# Altium schematic symbol library XSS_PowerIC.SchLib: 73 symbols
Pins are listed as number, name and electrical type; pins without a type are passive.

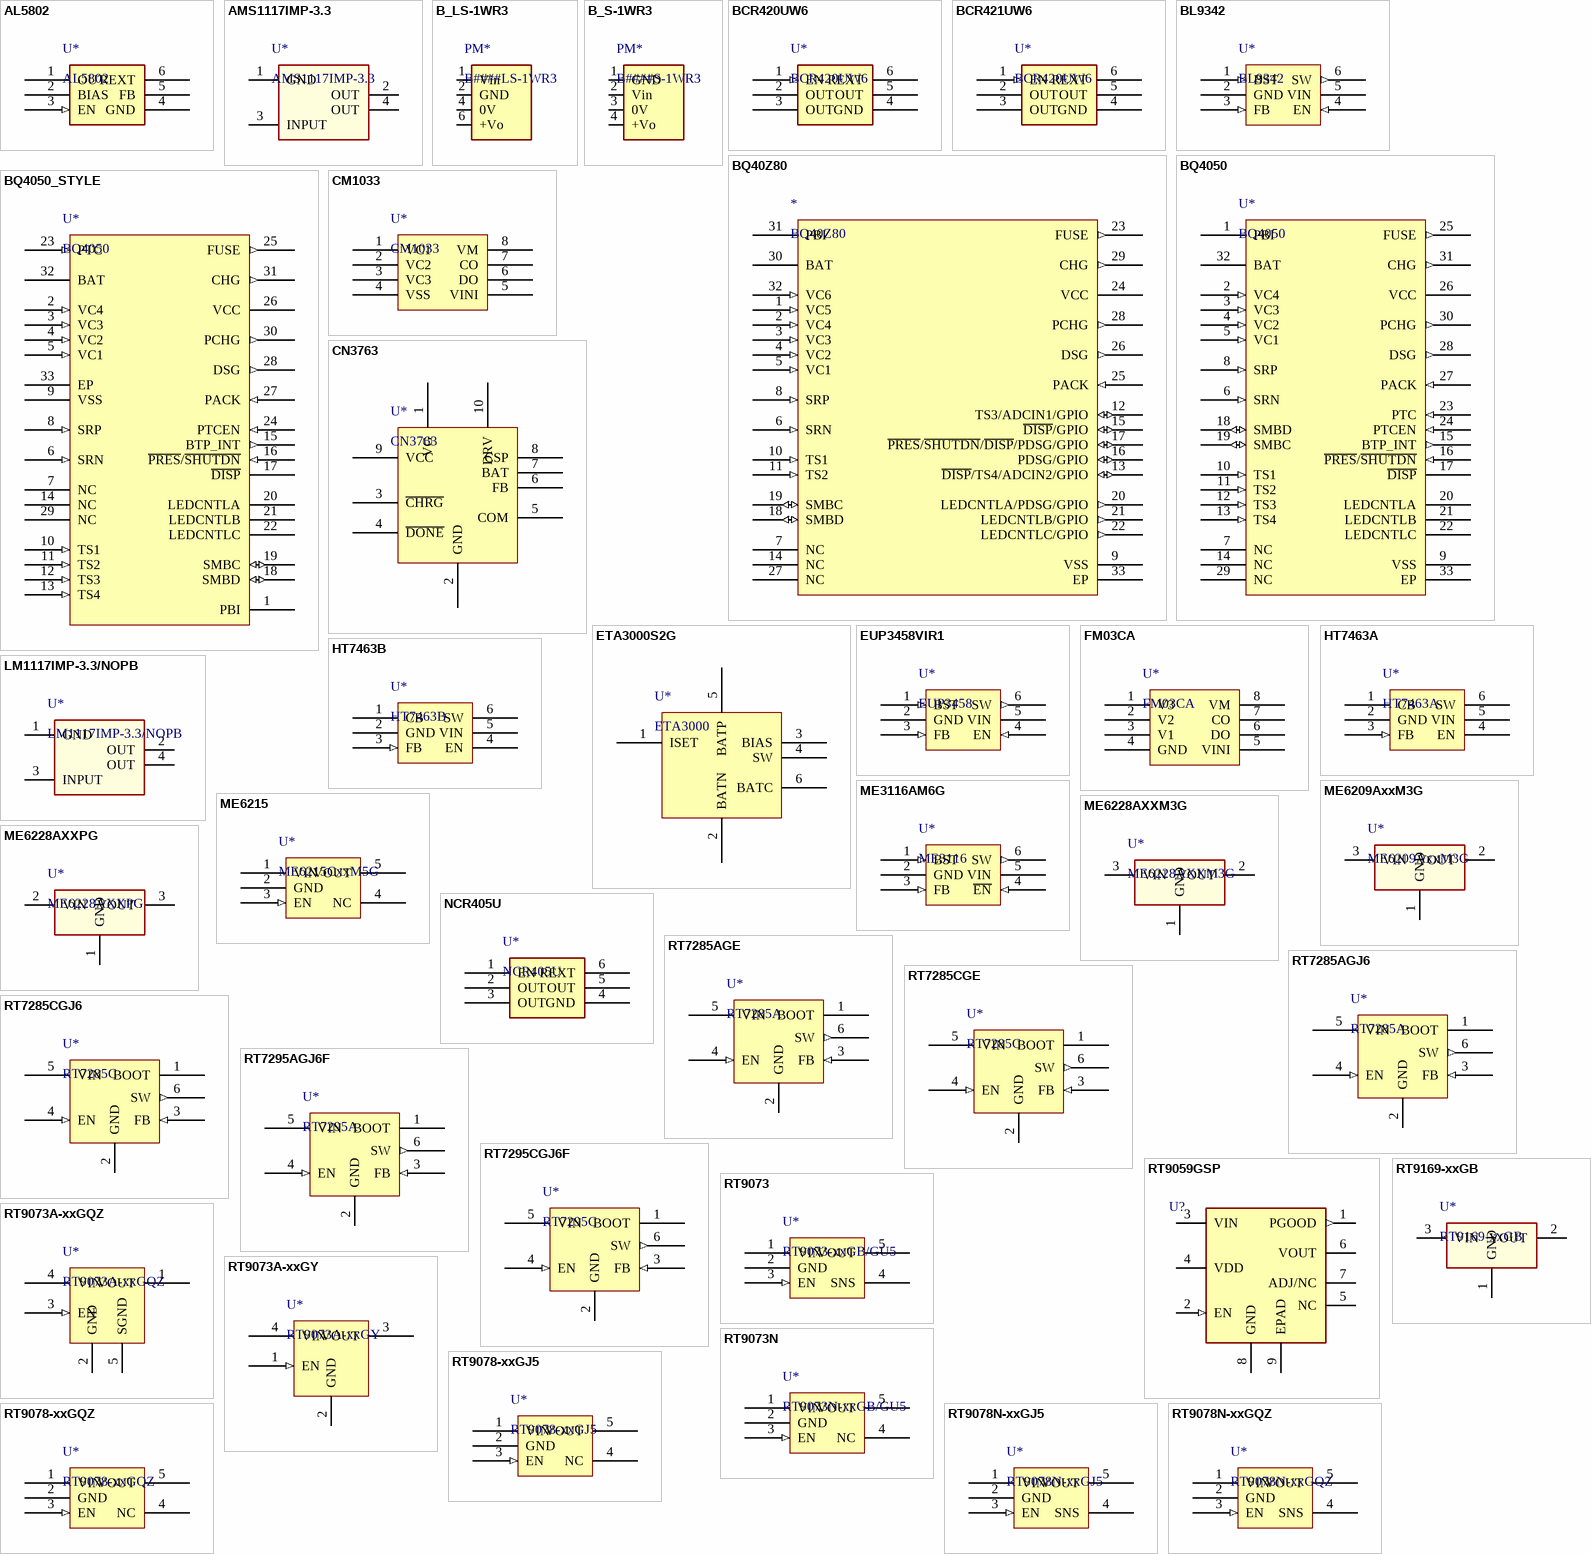
[diagram p0: symbols AL5802 to RT9169-xxGB]

## AL5802
designator U*
Diodes, LINEAR MODE CURRENT SINK LED DRIVER, 20~120mA, 0.8V~30V
footprint SOT-26
pins: 1 OUT (oc), 2 BIAS, 3 EN (in), 4 GND (power), 5 FB, 6 REXT

## AMS1117IMP-3.3
designator U*
AMS1117IMP-3.3, SOT-223, TI, 1000-mA 18-V linear voltage regulator
footprint SOT-223 (SOT-223 package)
pins: 1 GND (power), 2 OUT (power), 3 INPUT (power), 4 OUT (power)

## B_LS-1WR3
designator PM*, comment B####LS-1WR3
mornsun B_LS-1WR3 series DC-DC solation power. 1W output.
footprint B_LS-1WR3
pins: 1 Vin, 2 GND, 4 0V, 6 +Vo

## B_S-1WR3
designator PM*, comment B####S-1WR3
mornsun B_S-1WR3 series DC-DC solation power. 1W output.
footprint B_S-1WR3
pins: 1 GND, 2 Vin, 3 0V, 4 +Vo

## BCR420UW6
designator U*
Diodes, LINEAR LED CONSTANT CURRENT REGULATOR IN SOT26, 350mA, 40V
footprint SOT-26
pins: 1 EN (in), 2 OUT (oc), 3 OUT (oc), 4 GND (power), 5 OUT (oc), 6 REXT (oe)

## BCR421UW6
designator U*, comment BCR420UW6
Diodes, LINEAR LED CONSTANT CURRENT REGULATOR IN SOT26, 350mA, 18V
footprint SOT-26
pins: 1 EN (in), 2 OUT (oc), 3 OUT (oc), 4 GND (power), 5 OUT (oc), 6 REXT (oe)

## BL9342
designator U*
上海贝岭，BL9342，40V, 600mA 降压型稳压电路，1.8MHz, 效率最高90%
footprint SOT-23-6
pins: 1 BST (in), 2 GND (power), 3 FB (in), 4 EN (in), 5 VIN (power), 6 SW (out)

## BQ40Z80
designator *
TI, BQ40Z80(BQ40Z80RSMR/BQ40Z80RSMT), 2-s to 6-s battery pack manager with Impedance Track™ gas gauging, VQFN32(4mmx4mm) = RSM0032A
footprint RSM0032A (TI RSM0032A package, 4mmx4mm, VQFN32+1)
pins: 1 VC5 (in), 2 VC4 (in), 3 VC3 (in), 4 VC2 (in), 5 VC1 (in), 6 SRN (in), 7 NC, 8 SRP (in), 9 VSS (power), 10 TS1 (in), 11 TS2 (in), 12 TS3/ADCIN1/GPIO (io), 13 ~{DISP}/TS4/ADCIN2/GPIO (io), 14 NC, 15 ~{DISP}/GPIO (io), 16 PDSG/GPIO (io), 17 ~{PRES}/~{SHUTDN}/~{DISP}/PDSG/GPIO (io), 18 SMBD (io), 19 SMBC (io), 20 LEDCNTLA/PDSG/GPIO (out), 21 LEDCNTLB/GPIO (out), 22 LEDCNTLC/GPIO (out), 23 FUSE (out), 24 VCC (power), 25 PACK (in), 26 DSG (out), 27 NC, 28 PCHG (out), 29 CHG (out), 30 BAT (power), 31 PBI (power), 32 VC6 (in), 33 EP

## BQ4050
designator U*
TI, BQ4050(BQ4050RSMR/BQ4050RSMT), 1-4 series CEDV battery fuel (gas) gauge, VQFN32(4mmx4mm) = RSM0032A
footprint RSM0032A (TI RSM0032A package, 4mmx4mm, VQFN32+1)
pins: 1 PBI (power), 2 VC4 (in), 3 VC3 (in), 4 VC2 (in), 5 VC1 (in), 6 SRN (in), 7 NC, 8 SRP (in), 9 VSS (power), 10 TS1 (in), 11 TS2 (in), 12 TS3 (in), 13 TS4 (in), 14 NC, 15 BTP_INT (out), 16 ~{PRES}/~{SHUTDN} (in), 17 ~{DISP}, 18 SMBD (io), 19 SMBC (io), 20 LEDCNTLA, 21 LEDCNTLB, 22 LEDCNTLC, 23 PTC (in), 24 PTCEN (in), 25 FUSE (out), 26 VCC, 27 PACK (in), 28 DSG (out), 29 NC, 30 PCHG (out), 31 CHG (out), 32 BAT (power), 33 EP

## BQ4050_STYLE
designator U*, comment BQ4050
TI, BQ4050(BQ4050RSMR/BQ4050RSMT), 1-4 series CEDV battery fuel (gas) gauge, VQFN32(4mmx4mm) = RSM0032A
footprint RSM0032A (TI RSM0032A package, 4mmx4mm, VQFN32+1)
pins: 1 PBI (power), 2 VC4 (in), 3 VC3 (in), 4 VC2 (in), 5 VC1 (in), 6 SRN (in), 7 NC, 8 SRP (in), 9 VSS (power), 10 TS1 (in), 11 TS2 (in), 12 TS3 (in), 13 TS4 (in), 14 NC, 15 BTP_INT (out), 16 ~{PRES}/~{SHUTDN} (in), 17 ~{DISP}, 18 SMBD (io), 19 SMBC (io), 20 LEDCNTLA, 21 LEDCNTLB, 22 LEDCNTLC, 23 PTC (in), 24 PTCEN (in), 25 FUSE (out), 26 VCC, 27 PACK (in), 28 DSG (out), 29 NC, 30 PCHG (out), 31 CHG (out), 32 BAT (power), 33 EP

## CM1033
designator U*
创芯微ICM, 3 串可充电锂电池保护 IC, SOP-8 package
footprint SOP-8 (Standard SOP-8 PAckage, shell:3.9mm width)
pins: 1 VC1, 2 VC2, 3 VC3, 4 VSS, 5 VINI, 6 DO, 7 CO, 8 VM

## CN3763
designator U*
CN3763, 如韵Consonace, 4A 三节锂电池充电管理集成电路, SSOP-10, Input voltage: 6.6V~30V, 4A
footprint SSOP-10 (SSOP package, 10Pins, 6mmx5mmx1.5mm)
pins: 1 VG, 2 GND, 3 ~{CHRG}, 4 ~{DONE}, 5 COM, 6 FB, 7 BAT, 8 CSP, 9 VCC, 10 DRV

## ETA3000S2G
designator U*, comment ETA3000
ETA3000, ETASOLUTION, Inductive Cell balencer IC With Balancing Current up to 2A. SOT-6L packge
footprint SOT23-6L
pins: 1 ISET, 2 BATN, 3 BIAS, 4 SW, 5 BATP, 6 BATC

## EUP3458VIR1
designator U*, comment EUP3458
EUTECH， EUP345830V, 1.2A synchronous Buck Converter，1.2MHz, 效率最高92%
footprint SOT-23-6
pins: 1 BST (in), 2 GND (power), 3 FB (in), 4 EN (in), 5 VIN (power), 6 SW (out)

## FM03CA
designator U*
富满电子, FM03CA, 3 节串联用锂电池保护 IC, SOP-8, 可替代CM1033
footprint SOP-8 (Standard SOP-8 PAckage, shell:3.9mm width)
pins: 1 V3, 2 V2, 3 V1, 4 GND, 5 VINI, 6 DO, 7 CO, 8 VM

## HT7463A
designator U*
HT7463A, Holtek,SOT23-6, 52V/600mA, 1.25MHz Asynchronous Step Down Converter, VIN/4.5~52V,600mA peak current,Up to 90% Efficiency
footprint SOT-23-6
pins: 1 CB (power), 2 GND (power), 3 FB (in), 4 EN, 5 VIN (power), 6 SW (power)

## HT7463B
designator U*
HT7463A, Holtek,SOT23-6, 52V/600mA, 550kHz Asynchronous Step Down Converter, VIN/4.5~52V,600mA peak current,Up to 90% Efficiency
footprint SOT-23-6
pins: 1 CB (power), 2 GND (power), 3 FB (in), 4 EN, 5 VIN (power), 6 SW (power)

## LM1117IMP-3.3/NOPB
designator U*
LM1117IMP-3.3/NOPB, SOT-223, TI, 800-mA 15-V linear voltage regulator
footprint DCY0004A (SOT-223 package)
pins: 1 GND (power), 2 OUT (power), 3 INPUT (power), 4 OUT (power)

## ME3116AM6G
designator U*, comment ME3116
南京微盟，ME3116AM6G，SOT-23-6，40V, 1A 降压型稳压电路，550kHZ，效率最高90%
footprint SOT-23-6
pins: 1 BST (in), 2 GND (power), 3 FB (in), 4 ~{EN} (in), 5 VIN (power), 6 SW (out)

## ME6209AxxM3G
designator U*
南京微盟, ME6209AxxM3G, Low Power Consumption LDO, 250mA, input voltage up to 18V, SOT23-3, xx can be 18(1.8v), 27, 50,
footprint SOT23-3-T1 (SOT23-3)
pins: 1 GND (power), 2 VOUT (power), 3 VIN (power)

## ME6215
designator U*, comment ME6215CxxM5G
南京微盟，ME6215,Vin up to 18V, 300mA; ComponentLink1Description: Datasheet; ComponentLink1URL: https://www.richtek.com/assets/product_file/RT9193/DS9193-17.pdf; ComponentLink2Description: Website; ComponentLink2URL: https://www.richtek.com/Products/Linear%20Regulator/Single%20Output%20Linear%20Regulator/RT9193?sc_lang=en
footprint SOT23-5
pins: 1 VIN (power), 2 GND (power), 3 EN (in), 4 NC, 5 VOUT (power)

## ME6228AXXM3G
designator U*
150mA 带载、0.8 uA 低功耗、30V 高耐压线性稳压器,SOT23-3 package: XX:18,25,28,30,33,35,40,50
footprint SOT23-3-T1 (SOT23-3)
pins: 1 GND (power), 2 VOUT (power), 3 VIN (power)

## ME6228AXXPG
designator U*
150mA 带载、0.8 uA 低功耗、30V 高耐压线性稳压器,SOT89-3 package: XX:18,25,28,30,33,35,40,50
footprint SOT89-3 (SOT89-3 package)
pins: 1 GND (power), 2 VIN (power), 3 VOUT (power)

## NCR405U
designator U*
nexperia, 50 mA LED driver in SOT457(SC-74-6)
footprint SC-74-6 (SC74-6, nexperia:SOT457)
pins: 1 EN (power), 2 OUT (oc), 3 OUT (oc), 4 GND (power), 5 OUT (oc), 6 REXT (oe)

## RT7285AGE
designator U*, comment RT7285A
Richtek ,1.5A, 18V, 500kHz ACOTTM SynchronousStep-Down Converter
footprint SOT-23-6
pins: 1 BOOT, 2 GND (power), 3 FB (in), 4 EN (in), 5 VIN (power), 6 SW (out)

## RT7285AGJ6
designator U*, comment RT7285A
Richtek ,1.5A, 18V, 500kHz ACOTTM SynchronousStep-Down Converter
footprint TSOT-23-6
pins: 1 BOOT, 2 GND (power), 3 FB (in), 4 EN (in), 5 VIN (power), 6 SW (out)

## RT7285CGE
designator U*, comment RT7285C
Richtek ,1.5A, 18V, 500kHz ACOTTM SynchronousStep-Down Converter
footprint SOT-23-6
pins: 1 BOOT, 2 GND (power), 3 FB (in), 4 EN (in), 5 VIN (power), 6 SW (out)

## RT7285CGJ6
designator U*, comment RT7285C
Richtek ,1.5A, 18V, 500kHz ACOTTM SynchronousStep-Down Converter
footprint TSOT-23-6
pins: 1 BOOT, 2 GND (power), 3 FB (in), 4 EN (in), 5 VIN (power), 6 SW (out)

## RT7295AGJ6F
designator U*, comment RT7295A
3.5A, 18V, 500kHz ACOTTMSynchronous Step-Down Converter
footprint TSOT-23-6
pins: 1 BOOT, 2 GND (power), 3 FB (in), 4 EN (in), 5 VIN (power), 6 SW (out)

## RT7295CGJ6F
designator U*, comment RT7295C
3.5A, 18V, 500kHz ACOTTMSynchronous Step-Down Converter
footprint TSOT-23-6
pins: 1 BOOT, 2 GND (power), 3 FB (in), 4 EN (in), 5 VIN (power), 6 SW (out)

## RT9059GSP
designator U?  (value not drawn)
The RT9059 is a high performance positive voltage regulator designed for use in applications requiring very low input voltage and very low dropout voltage at up to 3A.; Manufacturer_Name: RICHTEK; Datasheet Link: https://www.richtek.com/assets/product_file/RT9059/DS9059-10.pdf; Height: 1.753mm; Manufacturer_Part_Number: RT9059GSP
footprint SOIC127P600X175-9N
pins: 1 PGOOD (out), 2 EN (in), 3 VIN (power), 4 VDD (power), 5 NC, 6 VOUT (power), 7 ADJ/NC, 8 GND (power), 9 EPAD

## RT9073
designator U*, comment RT9073-xxGB/GU5
RICHTEK RT9073. 1μA IQ, 250mA Low-Dropout Linear Regulator. RT9073-xxGB with SOT-23-5; RT9073-xxGU5 th SC-70-5; ComponentLink1Description: Datasheet; ComponentLink1URL: https://www.richtek.com/assets/product_file/RT9193/DS9193-17.pdf; ComponentLink2Description: Website; ComponentLink2URL: https://www.richtek.com/Products/Linear%20Regulator/Single%20Output%20Linear%20Regulator/RT9193?sc_lang=en
footprint SOT-25 (Richtek 3*1.8*1.3)
footprint SC-70-5 (SC-70-5, TI:DCK0005A)
pins: 1 VIN (power), 2 GND (power), 3 EN (in), 4 SNS, 5 VOUT (power)

## RT9073A-xxGQZ
designator U*
RICHTEK RT9073A 1μA IQ, 250mA Low-Dropout Linear Regulator. RT9073A-xxGQZ package is  ZQFN-4L 1x1 (Z-Type); ComponentLink1Description: Datasheet; ComponentLink1URL: https://www.richtek.com/assets/product_file/RT9193/DS9193-17.pdf; ComponentLink2Description: Website; ComponentLink2URL: https://www.richtek.com/Products/Linear%20Regulator/Single%20Output%20Linear%20Regulator/RT9193?sc_lang=en
footprint ZQFN1x1-4 (ZQFN1x1-4, RichTek Package)
pins: 1 VOUT (power), 2 GND (power), 3 EN (in), 4 VIN (power), 5 SGND (power)

## RT9073A-xxGY
designator U*
RICHTEK RT9073A 1μA IQ, 250mA Low-Dropout Linear Regulator. RT9073A-xxGY ackage is  SC-82; ComponentLink1Description: Datasheet; ComponentLink1URL: https://www.richtek.com/assets/product_file/RT9193/DS9193-17.pdf; ComponentLink2Description: Website; ComponentLink2URL: https://www.richtek.com/Products/Linear%20Regulator/Single%20Output%20Linear%20Regulator/RT9193?sc_lang=en
footprint SC-82 (SC-82,SOT343)
pins: 1 EN (in), 2 GND (power), 3 VOUT (power), 4 VIN (power)

## RT9073N
designator U*, comment RT9073N-xxGB/GU5
RICHTEK RT9073. 1μA IQ, 250mA Low-Dropout Linear Regulator. Without SNS pinh SOT-23-5; RT9073NxxGU5 th SC-70-5; ComponentLink1Description: Datasheet; ComponentLink1URL: https://www.richtek.com/assets/product_file/RT9193/DS9193-17.pdf; ComponentLink2Description: Website; ComponentLink2URL: https://www.richtek.com/Products/Linear%20Regulator/Single%20Output%20Linear%20Regulator/RT9193?sc_lang=en
footprint SOT-25 (Richtek 3*1.8*1.3)
footprint SC-70-5 (SC-70-5, TI:DCK0005A)
pins: 1 VIN (power), 2 GND (power), 3 EN (in), 4 NC, 5 VOUT (power)

## RT9078-xxGJ5
designator U*
RICHTEK RT9078 2A IQ, 300mA Low-Dropout Linear Regulator. Without SNS pinh TSOT-23-5; ComponentLink1Description: Datasheet; ComponentLink1URL: https://www.richtek.com/assets/product_file/RT9193/DS9193-17.pdf; ComponentLink2Description: Website; ComponentLink2URL: https://www.richtek.com/Products/Linear%20Regulator/Single%20Output%20Linear%20Regulator/RT9193?sc_lang=en
footprint TSOT-25
pins: 1 VIN (power), 2 GND (power), 3 EN (in), 4 NC, 5 VOUT (power)

## RT9078-xxGQZ
designator U*
RICHTEK RT9078 2A IQ, 300mA Low-Dropout Linear Regulator. Without SNS pins,  ZQFN-4L 1x1; ComponentLink1Description: Datasheet; ComponentLink1URL: https://www.richtek.com/assets/product_file/RT9193/DS9193-17.pdf; ComponentLink2Description: Website; ComponentLink2URL: https://www.richtek.com/Products/Linear%20Regulator/Single%20Output%20Linear%20Regulator/RT9193?sc_lang=en
footprint ZQFN1x1-4 (ZQFN1x1-4, RichTek Package)
pins: 1 VIN (power), 2 GND (power), 3 EN (in), 4 NC, 5 VOUT (power)

## RT9078N-xxGJ5
designator U*
RICHTEK RT9078 2A IQ, 300mA Low-Dropout Linear Regulator. With SNS pin, TSOT-23-5; ComponentLink1Description: Datasheet; ComponentLink1URL: https://www.richtek.com/assets/product_file/RT9193/DS9193-17.pdf; ComponentLink2Description: Website; ComponentLink2URL: https://www.richtek.com/Products/Linear%20Regulator/Single%20Output%20Linear%20Regulator/RT9193?sc_lang=en
footprint TSOT-25
pins: 1 VIN (power), 2 GND (power), 3 EN (in), 4 SNS, 5 VOUT (power)

## RT9078N-xxGQZ
designator U*
RICHTEK RT9078 2A IQ, 300mA Low-Dropout Linear Regulator. Without SNS pins,  ZQFN-4L 1x1; ComponentLink1Description: Datasheet; ComponentLink1URL: https://www.richtek.com/assets/product_file/RT9193/DS9193-17.pdf; ComponentLink2Description: Website; ComponentLink2URL: https://www.richtek.com/Products/Linear%20Regulator/Single%20Output%20Linear%20Regulator/RT9193?sc_lang=en
footprint ZQFN1x1-4 (ZQFN1x1-4, RichTek Package)
pins: 1 VIN (power), 2 GND (power), 3 EN (in), 4 SNS, 5 VOUT (power)

## RT9169-xxGB
designator U*
Ricktek, RT9169-xxGB, 100mA, 4μA Quiescent Current CMOS LDO Regulator,, xx can be 12,13~49 and 50. SOT23-5
footprint SOT23-5
pins: 1 GND (power), 2 VOUT (power), 3 VIN (power)

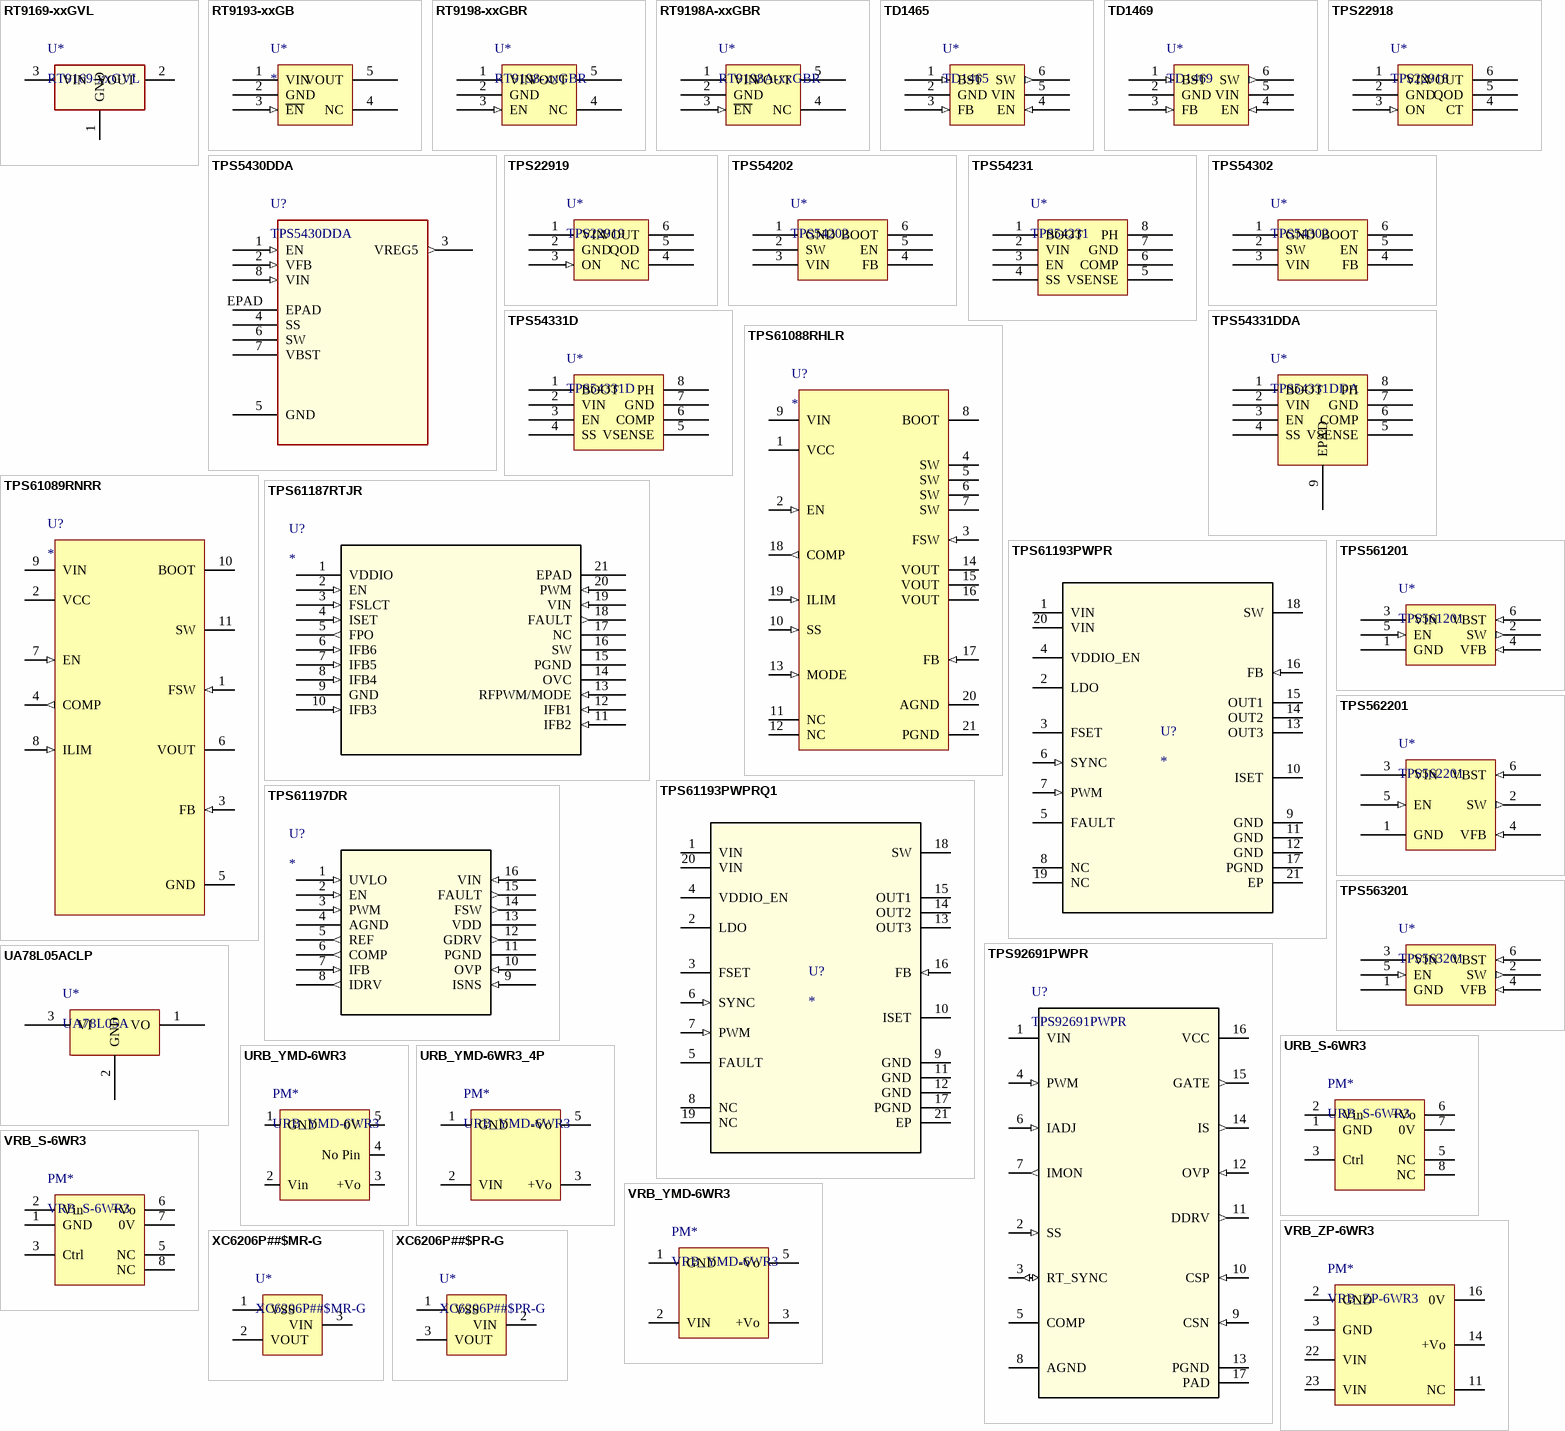
[diagram p1: symbols RT9169-xxGVL to XC6206P##$PR-G]

## RT9169-xxGVL
designator U*
Ricktek, RT9169-xxGVL, 100mA, 4μA Quiescent Current CMOS LDO Regulator, SOT23-3, xx can be 12,13~49 and 50. The pin sequence is different with RT9169-xxGV
footprint SOT23-3-T1 (SOT23-3)
pins: 1 GND (power), 2 VOUT (power), 3 VIN (power)

## RT9193-xxGB
designator U*
RICHTEK RT9193-xxGB with SOT-23-5. xx could be 15...50(1.5V...5.0V),1H(1.85V),2H(2.85V),4G(4.75V).; ComponentLink1Description: Datasheet; ComponentLink1URL: https://www.richtek.com/assets/product_file/RT9193/DS9193-17.pdf; ComponentLink2Description: Website; ComponentLink2URL: https://www.richtek.com/Products/Linear%20Regulator/Single%20Output%20Linear%20Regulator/RT9193?sc_lang=en
footprint SOT-25 (Richtek 3*1.8*1.3)
pins: 1 VIN (power), 2 GND (power), 3 ~{EN} (in), 4 NC, 5 VOUT (power)

## RT9198-xxGBR
designator U*
RICHTEK, RT9198, SC-70-5(R-Type),300mA, Low Noise, Ultra-Fast CMOS LDO Regulator; ComponentLink1Description: Datasheet; ComponentLink1URL: https://www.richtek.com/assets/product_file/RT9193/DS9193-17.pdf; ComponentLink2Description: Website; ComponentLink2URL: https://www.richtek.com/Products/Linear%20Regulator/Single%20Output%20Linear%20Regulator/RT9193?sc_lang=en
footprint SC-70-5 (SC-70-5, TI:DCK0005A)
footprint SOT23-5
pins: 1 VIN (power), 2 GND (power), 3 EN (in), 4 NC, 5 VOUT (power)

## RT9198A-xxGBR
designator U*
RICHTEK, RT9198A, SC-70-5(R-Type),300mA, Low Noise, Ultra-Fast CMOS LDO Regulator; ComponentLink1Description: Datasheet; ComponentLink1URL: https://www.richtek.com/assets/product_file/RT9193/DS9193-17.pdf; ComponentLink2Description: Website; ComponentLink2URL: https://www.richtek.com/Products/Linear%20Regulator/Single%20Output%20Linear%20Regulator/RT9193?sc_lang=en
footprint SC-70-5 (SC-70-5, TI:DCK0005A)
footprint SOT23-5
pins: 1 VIN (power), 2 GND (power), 3 ~{EN} (in), 4 NC, 5 VOUT (power)

## TD1465
designator U*
Techcode，TD1465，40V, 600mA synchronous Buck Converter，1MHz, 效率最高90%
footprint SOT-23-6
pins: 1 BST (in), 2 GND (power), 3 FB (in), 4 EN (in), 5 VIN (power), 6 SW (out)

## TD1469
designator U*
Techcode，TD1469，40V, 800mA synchronous Buck Converter，1MHz, 效率最高90%
footprint SOT-23-6
pins: 1 BST (in), 2 GND (power), 3 FB (in), 4 EN (in), 5 VIN (power), 6 SW (out)

## TPS5430DDA
designator U?
TI, 5.5V to 36V Input, 3A, 500kHz Step-Down Converter, HSOIC-8; Mfr_Name: Texas Instruments; RefDes: RefDes; Type: Type
footprint DDA8_3P1X2P4
footprint DDA8_3P1X2P4 (TI, PowerPAD TM SOIC - 1.7 mm max height, 8Pin)
pins: 1 EN (in), 2 VFB (in), 3 VREG5 (out), 4 SS, 5 GND (power), 6 SW, 7 VBST, 8 VIN (in), EPAD

## TPS22918
designator U*
TI, TPS22918: 5.5-V, 2-A, 52-mΩ On-Resistance Load Switch / SOT23-6; ComponentLink1Description: Datasheet; ComponentLink1URL: https://www.richtek.com/assets/product_file/RT9193/DS9193-17.pdf; ComponentLink2Description: Website; ComponentLink2URL: https://www.richtek.com/Products/Linear%20Regulator/Single%20Output%20Linear%20Regulator/RT9193?sc_lang=en
footprint SOT-23-6
pins: 1 VIN (power), 2 GND (power), 3 ON (in), 4 CT, 5 QOD (power), 6 VOUT (power)

## TPS22919
designator U*
TI, TPS22919: TPS22919 5.5 V, 1.5 A, 90-mΩ Self-Protected Load Switch with Controlled Rise Time. SC70-6; ComponentLink1Description: Datasheet; ComponentLink1URL: https://www.richtek.com/assets/product_file/RT9193/DS9193-17.pdf; ComponentLink2Description: Website; ComponentLink2URL: https://www.richtek.com/Products/Linear%20Regulator/Single%20Output%20Linear%20Regulator/RT9193?sc_lang=en
footprint SC70-6 (SC70-5, TI:DCK0006A)
pins: 1 VIN (power), 2 GND (power), 3 ON (in), 4 NC, 5 QOD (power), 6 VOUT (power)

## TPS54202
designator U*
TPS54202 4.5-V to 28-V Input, 2-A Output, EMI Friendly Synchronous Step Down Converter
footprint DDC0006A (TI, SOT-23-6 thin)
pins: 1 GND (power), 2 SW (power), 3 VIN (power), 4 FB (power), 5 EN (power), 6 BOOT (power)

## TPS54231
designator U*
TPS54231 2-A, 28-V Input, Step-Down DC-DC Converter With Eco-mode™
footprint D0008A (TI D0008A(R-PDSO-G8) package with 6mmx3.85mm size, known as soic-8)
pins: 1 BOOT (power), 2 VIN (power), 3 EN (power), 4 SS (power), 5 VSENSE (power), 6 COMP (power), 7 GND (power), 8 PH (power)

## TPS54302
designator U*
TPS54202 4.5-V to 28-V Input, 3A Output, EMI Friendly Synchronous Step Down Converter
footprint DDC0006A (TI, SOT-23-6 thin)
pins: 1 GND (power), 2 SW (power), 3 VIN (power), 4 FB (power), 5 EN (power), 6 BOOT (power)

## TPS54331D
designator U*
TPS54331 3-A, 28-V Input, Step Down DC-DC Converter With Eco-mode™.Package is SOIC(footprint:D0008A)
footprint D0008A (TI D0008A(R-PDSO-G8) package with 6mmx3.85mm size, known as soic-8)
pins: 1 BOOT (power), 2 VIN (power), 3 EN (power), 4 SS (power), 5 VSENSE (power), 6 COMP (power), 7 GND (power), 8 PH (power)

## TPS54331DDA
designator U*
TPS54331 3-A, 28-V Input, Step Down DC-DC Converter With Eco-mode™.Package is SO PowerPAD(footprint:DDA)
footprint DDA8_3X2p13
footprint DDA8_3X2p13-L
footprint DDA8_3X2p13-M
pins: 1 BOOT (power), 2 VIN (power), 3 EN (power), 4 SS (power), 5 VSENSE (power), 6 COMP (power), 7 GND (power), 8 PH (power), 9 EPAD (power)

## TPS61088RHLR
designator U?
The TPS61088 is a high power density, fully integrated synchronous boost converter with a 11-mΩ power switch and a 13-mΩ rectifier switch to provide a high efficiency and small size solution in portable systems. The TPS61088 has wide input voltage range from 2.7 V to 12 V to support applications with single cell or two cell Lithium batteries. The device has 10-A switch current capability and is capable of providing an output voltage up to 12.6 V.; PartNumber: TPS61088RHLR; Alternate_PartNumber: TPS61088RHLT; Manufacturer: Texas Instruments; CompType: IC; PIN_COUNT: 21; Application_BuildNumber: *; PackageReference: RHL0020A; MountType: SMT; RoHS: Y; RefDes: RefDes; Type: DEV; Value: Value; Copyright: Copyright (C) 2018 Accelerated Designs. All rights reserved; ComponentLink1Description: TI China Link; ComponentLink1URL: http://www.ti.com.cn/product/cn/TPS61088
footprint RHL0020A
footprint RHL0020A-L (Large package for manual solder)
pins: 1 VCC (power), 2 EN (in), 3 FSW (in), 4 SW (power), 5 SW (power), 6 SW (power), 7 SW (power), 8 BOOT (power), 9 VIN (power), 10 SS (in), 11 NC, 12 NC, 13 MODE (in), 14 VOUT (power), 15 VOUT (power), 16 VOUT (power), 17 FB (in), 18 COMP (out), 19 ILIM (in), 20 AGND (power), 21 PGND (power)

## TPS61089RNRR
designator U?
The TPS61089x represents the TPS61089 and the TPS610891. The TPS61089x is a fully-integrated synchronous boost converter with a 19-mΩ main power switch and a 27-mΩ rectifier switch. The device provides a high efficiency and small size power solution for portable equipment. The TPS61089x features wide input voltage range from 2.7 V to 12 V to support applications powered with single cell or two cell Lithium ion/polymer batteries. The TPS61089x has 7-A continuous switch current capability and provides output voltage up to 12.6 V.; PartNumber: TPS61089RNRR; Manufacturer: Texas Instruments; RefDes: RefDes; Type: DEV; Value: Value; Copyright: Copyright (C) 2018 Accelerated Designs. All rights reserved; ComponentLink1Description: TI China Link; ComponentLink1URL: http://www.ti.com.cn/product/cn/TPS61089
footprint RNR0011A
pins: 1 FSW (in), 2 VCC (power), 3 FB (in), 4 COMP (out), 5 GND (power), 6 VOUT (power), 7 EN (in), 8 ILIM (in), 9 VIN (power), 10 BOOT (power), 11 SW (power)

## TPS61187RTJR
designator U?
TI LED Backlight BOOST Driver, 6 channels. Imported from Ultra Librarian.; Manufacturer_Part_Number: tps61187rtjr; Vendor: Texas Instruments; Built_By: EMA_UL_Team; C: Copyright (C) 2016 Accelerated Designs. All rights reserved; Value: Value; Type: Type; RefDes: RefDes
footprint TI_RTJ20_2P7X2P7 (TI TPS61187)
pins: 1 VDDIO (power), 2 EN (in), 3 FSLCT (in), 4 ISET (in), 5 FPO (out), 6 IFB6 (in), 7 IFB5 (in), 8 IFB4 (in), 9 GND (power), 10 IFB3 (in), 11 IFB2 (in), 12 IFB1 (in), 13 RFPWM/MODE (in), 14 OVC, 15 PGND (power), 16 SW, 17 NC, 18 FAULT (out), 19 VIN (in), 20 PWM (in), 21 EPAD

## TPS61193PWPR
designator U?
TI 3-channel LED driver.Imported from UL; PartNumber: TPS61193PWPR; Manufacturer: Texas Instruments; RefDes: RefDes; TYPE: TYPE; Value: Value
footprint PWP0020D_N
footprint PWP0020D_M
footprint PWP0020D_L
pins: 1 VIN (power), 2 LDO (power), 3 FSET, 4 VDDIO_EN (power), 5 FAULT (oc), 6 SYNC (in), 7 PWM (in), 8 NC, 9 GND (power), 10 ISET, 11 GND (power), 12 GND (power), 13 OUT3 (power), 14 OUT2 (power), 15 OUT1 (power), 16 FB (in), 17 PGND (power), 18 SW (power), 19 NC, 20 VIN (power), 21 EP (power)

## TPS61193PWPRQ1
designator U?
TI 3-channel LED driver.Imported from UL; PartNumber: TPS61193PWPRQ1; Manufacturer: Texas Instruments; CompType: IC; PIN_COUNT: 21; Application_BuildNumber: *; PackageReference: PWP0020D; MountType: SMT; RefDes: RefDes; TYPE: TYPE; Value: Value
footprint PWP0020D_L
footprint PWP0020D_M
footprint PWP0020D_N
pins: 1 VIN (power), 2 LDO (power), 3 FSET, 4 VDDIO_EN (power), 5 FAULT (oc), 6 SYNC (in), 7 PWM (in), 8 NC, 9 GND (power), 10 ISET, 11 GND (power), 12 GND (power), 13 OUT3 (power), 14 OUT2 (power), 15 OUT1 (power), 16 FB (in), 17 PGND (power), 18 SW (power), 19 NC, 20 VIN (power), 21 EP (power)

## TPS61197DR
designator U?
TI LED Backlight BOOST Driver. Imported from Ultra Librarian.; Manufacturer_Part_Number: tps61197dr; Vendor: Texas Instruments; Built_By: EMA_UL_Team; C: Copyright (C) 2016 Accelerated Designs. All rights reserved; Value: Value; Type: Type; RefDes: RefDes
footprint TI_D16
footprint TI_D16-L
footprint TI_D16-M
pins: 1 UVLO (in), 2 EN (in), 3 PWM (in), 4 AGND (power), 5 REF (out), 6 COMP (out), 7 IFB (in), 8 IDRV (out), 9 ISNS (in), 10 OVP (in), 11 PGND (power), 12 GDRV (out), 13 VDD (power), 14 FSW (out), 15 FAULT (out), 16 VIN (in)

## TPS92691PWPR
designator U?
TPS92691: Multi-Topology LED Driver with Rail-to-Rail Current Sense Amplifier From TI.; Manufacturer: Texas Instruments; PartNumber: TPS92691PWPR; RefDes: RefDes; TYPE: TYPE; Value: Value
footprint PWP0016J_N
footprint PWP0016J_M
footprint PWP0016J_L
pins: 1 VIN (power), 2 SS (in), 3 RT_SYNC (io), 4 PWM (in), 5 COMP, 6 IADJ (in), 7 IMON (out), 8 AGND (power), 9 CSN (in), 10 CSP (in), 11 DDRV (out), 12 OVP (in), 13 PGND (power), 14 IS (out), 15 GATE (out), 16 VCC (power), 17 PAD

## TPS561201
designator U*
TPS561201 4.5-V to 17-V Input, 1-A Synchronous Step-Down Voltage Regulator in 6-Pin SOT-23
footprint DDC0006A (TI, SOT-23-6 thin)
pins: 1 GND (power), 2 SW (out), 3 VIN (power), 4 VFB (in), 5 EN (in), 6 VBST (in)

## TPS562201
designator U*
TPS562201 4.5-V to 17-V Input, 2-A Synchronous Step-Down Voltage Regulator in 6-Pin SOT-23
footprint DDC0006A (TI, SOT-23-6 thin)
pins: 1 GND (power), 2 SW (out), 3 VIN (power), 4 VFB (in), 5 EN (in), 6 VBST (in)

## TPS563201
designator U*
TPS563201 4.5-V to 17-V Input, 3-A Synchronous Step-Down Voltage Regulator in 6-Pin SOT-23
footprint DDC0006A (TI, SOT-23-6 thin)
pins: 1 GND (power), 2 SW (out), 3 VIN (power), 4 VFB (in), 5 EN (in), 6 VBST (in)

## UA78L05ACLP
designator U*, comment UA78L05A
TI,UA78L05ACLP,Positive-Voltage Linear Regulators / , Input：30V; ComponentLink1Description: Datasheet; ComponentLink1URL: https://www.richtek.com/assets/product_file/RT9193/DS9193-17.pdf; ComponentLink2Description: Website; ComponentLink2URL: https://www.richtek.com/Products/Linear%20Regulator/Single%20Output%20Linear%20Regulator/RT9193?sc_lang=en
footprint PK0003A_L
footprint PK0003A_M
footprint PK0003A_N
pins: 1 VO (power), 2 GND (power), 3 VI (power)

## URB_S-6WR3
designator PM*
mornsun DC-DC Converter,Input:18~36V, Output: 5V.  Size:22.00 × 9.50 × 12.00 m
footprint URB_S-6WR3
pins: 1 GND, 2 Vin, 3 Ctrl, 5 NC, 6 +Vo, 7 0V, 8 NC

## URB_YMD-6WR3
designator PM*
mornsun DC-DC Converter,Input:18~36V, Output: 5V.  Size:25.4mm x 25.4mm
footprint URB_YMD-6WR3
pins: 1 GND, 2 Vin, 3 +Vo, 4 No Pin, 5 0V

## URB_YMD-6WR3_4P
designator PM*, comment URB_YMD-6WR3
mornsun DC-DC Converter,Input:18~36V, Output: 5V.  Size:25.4mm x 25.4mm
footprint URB_YMD-6WR3_4P
pins: 1 GND (power), 2 VIN (power), 3 +Vo (power), 5 -Vo (power)

## VRB_S-6WR3
designator PM*
mornsun DC-DC Converter,Input:18~36V, Output: 5V.  Size:22.00 × 9.50 × 12.00 m
footprint VRB_S-6WR3
pins: 1 GND, 2 Vin, 3 Ctrl, 5 NC, 6 +Vo, 7 0V, 8 NC

## VRB_YMD-6WR3
designator PM*
mornsun DC-DC Converter,Input:18~36V, Output: 5V.  Size:25.4mm x 25.4mm
footprint VRB_YMD-6WR3
pins: 1 GND (power), 2 VIN (power), 3 +Vo (power), 5 -Vo (power)

## VRB_ZP-6WR3
designator PM*
mornsun DC-DC Converter,Input:18~36V, Output: 5V.  Size: 32mm x 20mm x 10.8mm
footprint VRB_ZP-6WR3
pins: 2 GND (power), 3 GND (power), 11 NC, 14 +Vo (power), 16 0V (power), 22 VIN (power), 23 VIN (power)

## XC6206P##$MR-G
designator U*
XC6206P##$MR-G, Low RSR Cap. Compatible Positive Voltage Regulators.Maximum Output Current: 200MA.  ##:Volatage $: accuracy.1->1%, 2->2%.  MR-G:SOT-23
footprint SOT23-3
pins: 1 VSS (power), 2 VOUT (power), 3 VIN (power)

## XC6206P##$PR-G
designator U*
XC6206P##$MR-G, Low RSR Cap. Compatible Positive Voltage Regulators.Maximum Output Current: 200MA. ##:Volatage $: accuracy.1->1%, 2->2%.  PR-G:SOT-89
footprint SOT89-3 (SOT89-3 package)
pins: 1 VSS (power), 2 VIN (power), 3 VOUT (power)